# EAGLE library part TFT_DISPLAY (library my_devices)
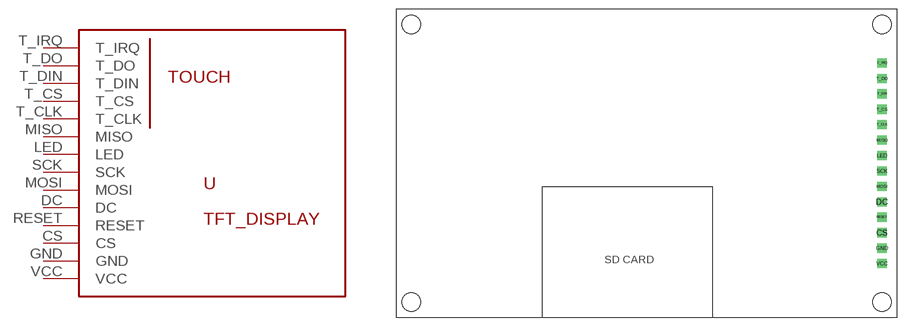
[diagram p21: symbol with the pads of TFT_DISPLAY; footprint TFT_DISPLAY]

Designator prefix U

## TFT_DISPLAY  [TFT_DISPLAY]
CS  CS
DC  DC
GND  GND  pwr
LED  LED
MISO  MISO
MOSI  MOSI
RESET  RESET
SCK  SCK
T_CLK  T_CLK
T_CS  T_CS
T_DIN  T_DIN
T_DO  T_DO
T_IRQ  T_IRQ
VCC  VCC  pwr

## Footprint TFT_DISPLAY (pad centres in mm)
drill 1 square: CS 0,-10.16; DC 0,-5.08; GND 0,-12.7; LED 0,2.54; MISO 0,5.08; MOSI 0,-2.54; RESET 0,-7.62; SCK 0,0; T_CLK 0,7.62; T_CS 0,10.16; T_DIN 0,12.7; T_DO 0,15.24; T_IRQ 0,17.78; VCC 0,-15.24
hole 3 at -77.47,24.13
hole 3 at 0,24.13
hole 3 at 0,-21.59
hole 3 at -77.47,-21.59